# Altium footprint library PcbLib.PcbLib: 22 footprints (part 2 of 2)
Each footprint in its own frame and in the unit in brackets; x right, y up, seen from the top. Pads: shape width x height; smd on the part's side, far side on the other; paste and mask are expansions set on the pad; w line width, h text height; cw(c..) or ccw(c..) is an arc to the next point about the centre after c.
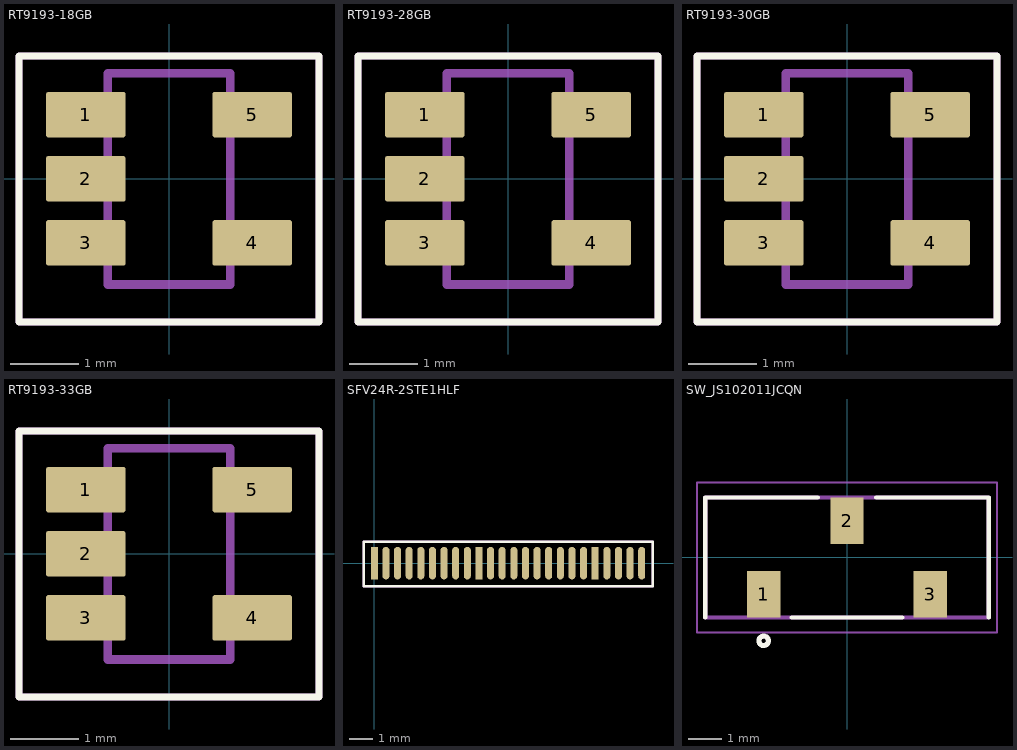
[diagram p1: the footprints below, top view; thin cyan lines are the x and y axes]

## RT9193-18GB [mm]
pads (5):
  rrect12% 1.17x0.67 smd: 1(-1.22,0.94) 2(-1.22,0) 3(-1.22,-0.94) 4(1.22,-0.94) 5(1.22,0.94)
Top Overlay:
  lines w0.1: -2.2,-2.1 -2.2,1.8 2.2,1.8 2.2,-2.1 1.1,-2.1 -1.1,-2.1 -2.2,-2.1
Top Assembly:
  lines w0.1: -2.2,-2.1 -2.2,1.8 2.2,1.8 2.2,-2.1 1.1,-2.1 -1.1,-2.1 -2.2,-2.1
  text "'.Designator'" at -2.7,-0.233 h0.5
Mechanical 13:
  lines w0.127: -0.9,-1.55 -0.9,1.55 0.9,1.55 0.9,-1.55 -0.9,-1.55

## RT9193-28GB [mm]
pads (5):
  rrect12% 1.17x0.67 smd: 1(-1.22,0.94) 2(-1.22,0) 3(-1.22,-0.94) 4(1.22,-0.94) 5(1.22,0.94)
Top Overlay:
  lines w0.1: -2.2,-2.1 -2.2,1.8 2.2,1.8 2.2,-2.1 1.1,-2.1 -1.1,-2.1 -2.2,-2.1
Top Assembly:
  lines w0.1: -2.2,-2.1 -2.2,1.8 2.2,1.8 2.2,-2.1 1.1,-2.1 -1.1,-2.1 -2.2,-2.1
  text "'.Designator'" at -2.7,-0.233 h0.5
Mechanical 13:
  lines w0.127: -0.9,-1.55 -0.9,1.55 0.9,1.55 0.9,-1.55 -0.9,-1.55

## RT9193-30GB [mm]
pads (5):
  rrect12% 1.17x0.67 smd: 1(-1.22,0.94) 2(-1.22,0) 3(-1.22,-0.94) 4(1.22,-0.94) 5(1.22,0.94)
Top Overlay:
  lines w0.1: -2.2,-2.1 -1.1,-2.1 1.1,-2.1 2.2,-2.1 2.2,1.8 -2.2,1.8 -2.2,-2.1
Top Assembly:
  lines w0.1: -2.2,-2.1 -1.1,-2.1 1.1,-2.1 2.2,-2.1 2.2,1.8 -2.2,1.8 -2.2,-2.1
  text "'.Designator'" at -2.7,-0.233 h0.5
Mechanical 13:
  lines w0.127: -0.9,-1.55 0.9,-1.55 0.9,1.55 -0.9,1.55 -0.9,-1.55

## RT9193-33GB [mm]
pads (5):
  rrect12% 1.17x0.67 smd: 1(-1.22,0.94) 2(-1.22,0) 3(-1.22,-0.94) 4(1.22,-0.94) 5(1.22,0.94)
Top Overlay:
  lines w0.1: -2.2,-2.1 -2.2,1.8 2.2,1.8 2.2,-2.1 1.1,-2.1 -1.1,-2.1 -2.2,-2.1
Top Assembly:
  lines w0.1: -2.2,-2.1 -2.2,1.8 2.2,1.8 2.2,-2.1 1.1,-2.1 -1.1,-2.1 -2.2,-2.1
  text "'.Designator'" at -2.7,-0.233 h0.5
Mechanical 13:
  lines w0.127: -0.9,-1.55 -0.9,1.55 0.9,1.55 0.9,-1.55 -0.9,-1.55

## SFV24R-2STE1HLF [mm]
pads (24):
  rect 0.3x1.4 smd: 1(0,0) 10(4.5,0) 20(9.5,0)
  oval 0.3x1.4 smd: 2(0.5,0) 3(1,0) 4(1.5,0) 5(2,0) 6(2.5,0) 7(3,0) 8(3.5,0) 9(4,0) 11(5,0) 12(5.5,0) 13(6,0) 14(6.5,0) 15(7,0) 16(7.5,0) 17(8,0) 18(8.5,0) 19(9,0) 21(10,0) 22(10.5,0) 23(11,0) 24(11.5,0)
Top Overlay:
  lines w0.1: -0.45,-1 11.975,-1 11.975,0.925 -0.45,0.925 -0.45,-1
Top Assembly:
  lines w0.1: -0.45,-1 11.975,-1 11.975,0.925 -0.45,0.925 -0.45,-1
  text "'.Designator'" at 3.25,0.05 h0.3

## SW_JS102011JCQN [mm]
pads (3):
  rect 1x1.4 smd: 1(-2.5,-1.1) 2(0,1.1) 3(2.5,-1.1)
Top Overlay:
  circle w0.152: c-2.5,-2.5 r0.141
  lines w0.127: -4.25,-1.8 -4.25,1.8 -0.88,1.8 ; -1.66,-1.8 1.66,-1.8 ; 0.88,1.8 4.25,1.8 4.25,-1.8
Mechanical 13:
  lines w0.127: -4.25,-1.8 4.25,-1.8 4.25,1.8 -4.25,1.8 -4.25,-1.8
Mechanical 15:
  lines w0.05: -4.5,-2.25 -4.5,2.25 4.5,2.25 4.5,-2.25 -4.5,-2.25